# Altium footprint library Op Amps.PcbLib: 6 footprints
Each footprint in its own frame and in the unit in brackets; x right, y up, seen from the top. Pads: shape width x height; smd on the part's side, far side on the other; paste and mask are expansions set on the pad; w line width, h text height; cw(c..) or ccw(c..) is an arc to the next point about the centre after c.
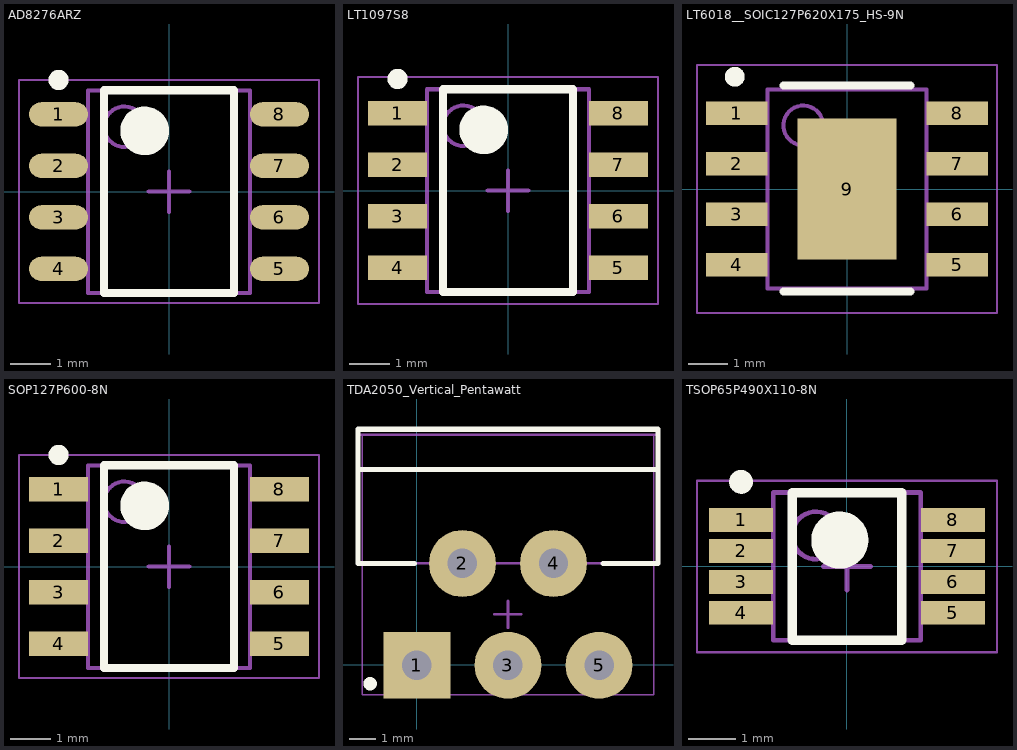
[diagram p0: the footprints below, top view; thin cyan lines are the x and y axes]

## AD8276ARZ [mm] "Differential Amplifier, Unity-Gain"
height 1.75
pads (8):
  oval 1.45x0.6 smd: 1(-2.725,1.905) 2(-2.725,0.635) 3(-2.725,-0.635) 4(-2.725,-1.905) 5(2.725,-1.905) 6(2.725,-0.635) 7(2.725,0.635) 8(2.725,1.905)
Top Overlay:
  circle w0.6: c-0.6,1.5 r0.3
  circle w0.25: c-2.725,2.755 r0.125
  lines w0.2: -1.6,-2.5 1.6,-2.5 1.6,2.5 -1.6,2.5 -1.6,-2.5
Mechanical 13:
  circle w0.1: c-1.1,1.6 r0.5
  lines w0.1: -2,-2.5 2,-2.5 2,2.5 -2,2.5 -2,-2.5
Mechanical 15:
  lines w0.05: -3.7,-2.75 3.7,-2.75 3.7,2.75 -3.7,2.75 -3.7,-2.75
  lines w0.1: -0.5,0 0.5,0 ; 0,-0.5 0,0.5
3D body "AD8276ARZ.step": height 1.75, standoff 0, extent -3,-2.5 3,2.5

## LT1097S8 [mm] "LT1097S8"
height 1.76
pads (8):
  rect 1.45x0.6 smd: 1(-2.725,1.905) 2(-2.725,0.635) 3(-2.725,-0.635) 4(-2.725,-1.905) 5(2.725,-1.905) 6(2.725,-0.635) 7(2.725,0.635) 8(2.725,1.905)
Top Overlay:
  circle w0.6: c-0.6,1.5 r0.3
  circle w0.25: c-2.725,2.755 r0.125
  lines w0.2: -1.6,-2.5 1.6,-2.5 1.6,2.5 -1.6,2.5 -1.6,-2.5
Mechanical 13:
  circle w0.1: c-1.1,1.6 r0.5
  lines w0.1: -2,-2.5 2,-2.5 2,2.5 -2,2.5 -2,-2.5
Mechanical 15:
  lines w0.05: -3.7,-2.8 3.7,-2.8 3.7,2.8 -3.7,2.8 -3.7,-2.8
  lines w0.1: -0.5,0 0.5,0 ; 0,-0.5 0,0.5
3D body "LT1097S8.step": height 1.75, standoff 0, extent -2.997,-2.5 2.997,2.5

## LT6018__SOIC127P620X175_HS-9N [mm] "LT6018__SOIC, 8-Leads, Body 4.90x3.90mm, Pitch 1.27mm, Thermal Pad 3.55x2.58mm, IPC Medium Density"
height 1.76
pads (9):
  rect 1.55x0.6 smd: 1(-2.775,1.905) 2(-2.775,0.635) 3(-2.775,-0.635) 4(-2.775,-1.905) 5(2.775,-1.905) 6(2.775,-0.635) 7(2.775,0.635) 8(2.775,1.905)
  rect 2.5x3.55 smd: 9(0,0)
Top Overlay:
  circle w0.25: c-2.825,2.825 r0.125
  lines w0.2: -1.6,-2.575 1.6,-2.575 ; -1.6,2.6 1.6,2.6
Mechanical 13:
  circle w0.1: c-1.1,1.6 r0.5
  lines w0.1: -2,-2.5 2,-2.5 2,2.5 -2,2.5 -2,-2.5
Mechanical 15:
  lines w0.05: -3.775,-3.125 3.775,-3.125 3.775,3.125 -3.775,3.125 -3.775,-3.125
  lines w0.1: -0.5,0 0.5,0 ; 0,-0.5 0,0.5
3D body "LT6018__SOIC127P620X175_HS-9N.step": height 1.75, standoff 0, extent -3.11,-2.5 3.11,2.5

## SOP127P600-8N [mm]
height 1.75
pads (8):
  rect 1.45x0.6 smd: 1(-2.725,1.905) 2(-2.725,0.635) 3(-2.725,-0.635) 4(-2.725,-1.905) 5(2.725,-1.905) 6(2.725,-0.635) 7(2.725,0.635) 8(2.725,1.905)
Top Overlay:
  circle w0.25: c-2.725,2.755 r0.125
  circle w0.6: c-0.6,1.5 r0.3
  lines w0.2: -1.6,-2.5 -1.6,2.5 1.6,2.5 1.6,-2.5 -1.6,-2.5
Mechanical 13:
  circle w0.1: c-1.1,1.6 r0.5
  lines w0.1: -2,-2.5 -2,2.5 2,2.5 2,-2.5 -2,-2.5
Mechanical 15:
  lines w0.05: -3.7,-2.75 -3.7,2.75 3.7,2.75 3.7,-2.75 -3.7,-2.75
  lines w0.1: -0.5,0 0.5,0 ; 0,-0.5 0,0.5
3D body "SOP127P600-8N.step": height 1.75, standoff 0, extent -3,-2.5 3,2.5

## TDA2050_Vertical_Pentawatt [mm] "32W Audio Amplifier"
height 20
pads (5):
  rect 2.5x2.5 hole 1.1: 1(-0.002,-0.01)
  round 2.5 hole 1.1: 2(1.698,3.79) 3(3.398,-0.01) 4(5.098,3.79) 5(6.798,-0.01)
Top Overlay:
  circle w0.25: c-1.75,-0.7 r0.125
  lines w0.2: -2.2,7.3 8.998,7.3 ; -0.1,3.79 -2.202,3.79 -2.202,8.8 8.998,8.8 8.998,3.79 6.95,3.79
Mechanical 13:
  lines w0.1: -2.2,3.8 -2.2,8.6 9,8.6 9,3.8 -2.2,3.8
Mechanical 15:
  lines w0.05: -2.052,-1.11 -2.052,8.6 8.848,8.6 8.848,-1.11 -2.052,-1.11
  lines w0.1: 2.898,1.89 3.898,1.89 ; 3.398,1.39 3.398,2.39
3D body: height 3, standoff 2.75, extent 6.2,-0.337 7.4,5.6
3D body: height 3, standoff 2.75, extent 2.8,-0.262 4,5.6
3D body: height 4, standoff 3, extent 2.8,5.15 4,5.6
3D body: height 4, standoff 3, extent 6.2,5.15 7.4,5.6
3D body: height 4, standoff 3, extent 4.5,5.15 5.7,5.6
3D body: height 4, standoff 3, extent 1.1,5.15 2.3,5.6
3D body: height 4, standoff 3, extent -0.6,5.15 0.6,5.6
3D body: height 11.65, standoff 3.5, extent -2,3.825 8.825,8.625
3D body: height 0, standoff -1.6, extent 6.333,-0.235 7.263,0.215
3D body: height 18.61, standoff 3.5, extent -1.999,7.325 8.825,8.525
3D body: height 3, standoff 0, extent 6.198,-0.235 7.398,0.215
3D body: height 0, standoff -1.6, extent 4.633,3.565 5.563,4.015
3D body: height 3, standoff 2.75, extent 4.5,3.558 5.7,5.593
3D body: height 3, standoff 0, extent 4.498,3.565 5.698,4.015
3D body: height 0, standoff -1.6, extent 2.933,-0.235 3.863,0.215
3D body: height 3, standoff 0, extent 2.798,-0.235 3.998,0.215
3D body: height 0, standoff -1.6, extent 1.233,3.565 2.163,4.015
3D body: height 3, standoff 2.75, extent 1.101,3.565 2.3,5.6
3D body: height 3, standoff 0, extent 1.098,3.565 2.298,4.015
3D body: height 0, standoff -1.6, extent -0.467,-0.235 0.463,0.215
3D body: height 3, standoff 2.75, extent -0.6,-0.262 0.6,5.6
3D body: height 3, standoff 0, extent -0.6,-0.225 0.6,0.225

## TSOP65P490X110-8N [mm] "TSOP, 8-Leads, Body 3.00x3.00mm, Pitch 0.65mm, IPC Medium Density"
height 1.1
pads (8):
  rect 1.35x0.5 smd: 1(-2.225,0.975) 2(-2.225,0.325) 3(-2.225,-0.325) 4(-2.225,-0.975) 5(2.225,-0.975) 6(2.225,-0.325) 7(2.225,0.325) 8(2.225,0.975)
Top Overlay:
  circle w0.25: c-2.225,1.775 r0.125
  circle w0.6: c-0.15,0.55 r0.3
  lines w0.2: -1.15,-1.55 -1.15,1.55 1.15,1.55 1.15,-1.55 -1.15,-1.55
Mechanical 13:
  circle w0.1: c-0.65,0.65 r0.5
  lines w0.1: -1.55,-1.55 -1.55,1.55 1.55,1.55 1.55,-1.55 -1.55,-1.55
Mechanical 15:
  lines w0.05: -3.15,-1.8 -3.15,1.8 3.15,1.8 3.15,-1.8 -3.15,-1.8
  lines w0.1: -0.5,0 0.5,0 ; 0,-0.5 0,0.5
3D body "TSOP65P490X110-8N.step": height 1.1, standoff 0, extent -2.45,-1.55 2.45,1.55